# Altium integrated library Analog Devices Data Converters Digital-to-Analog Converters.IntLib: 2231 symbols (part 162 of 181)
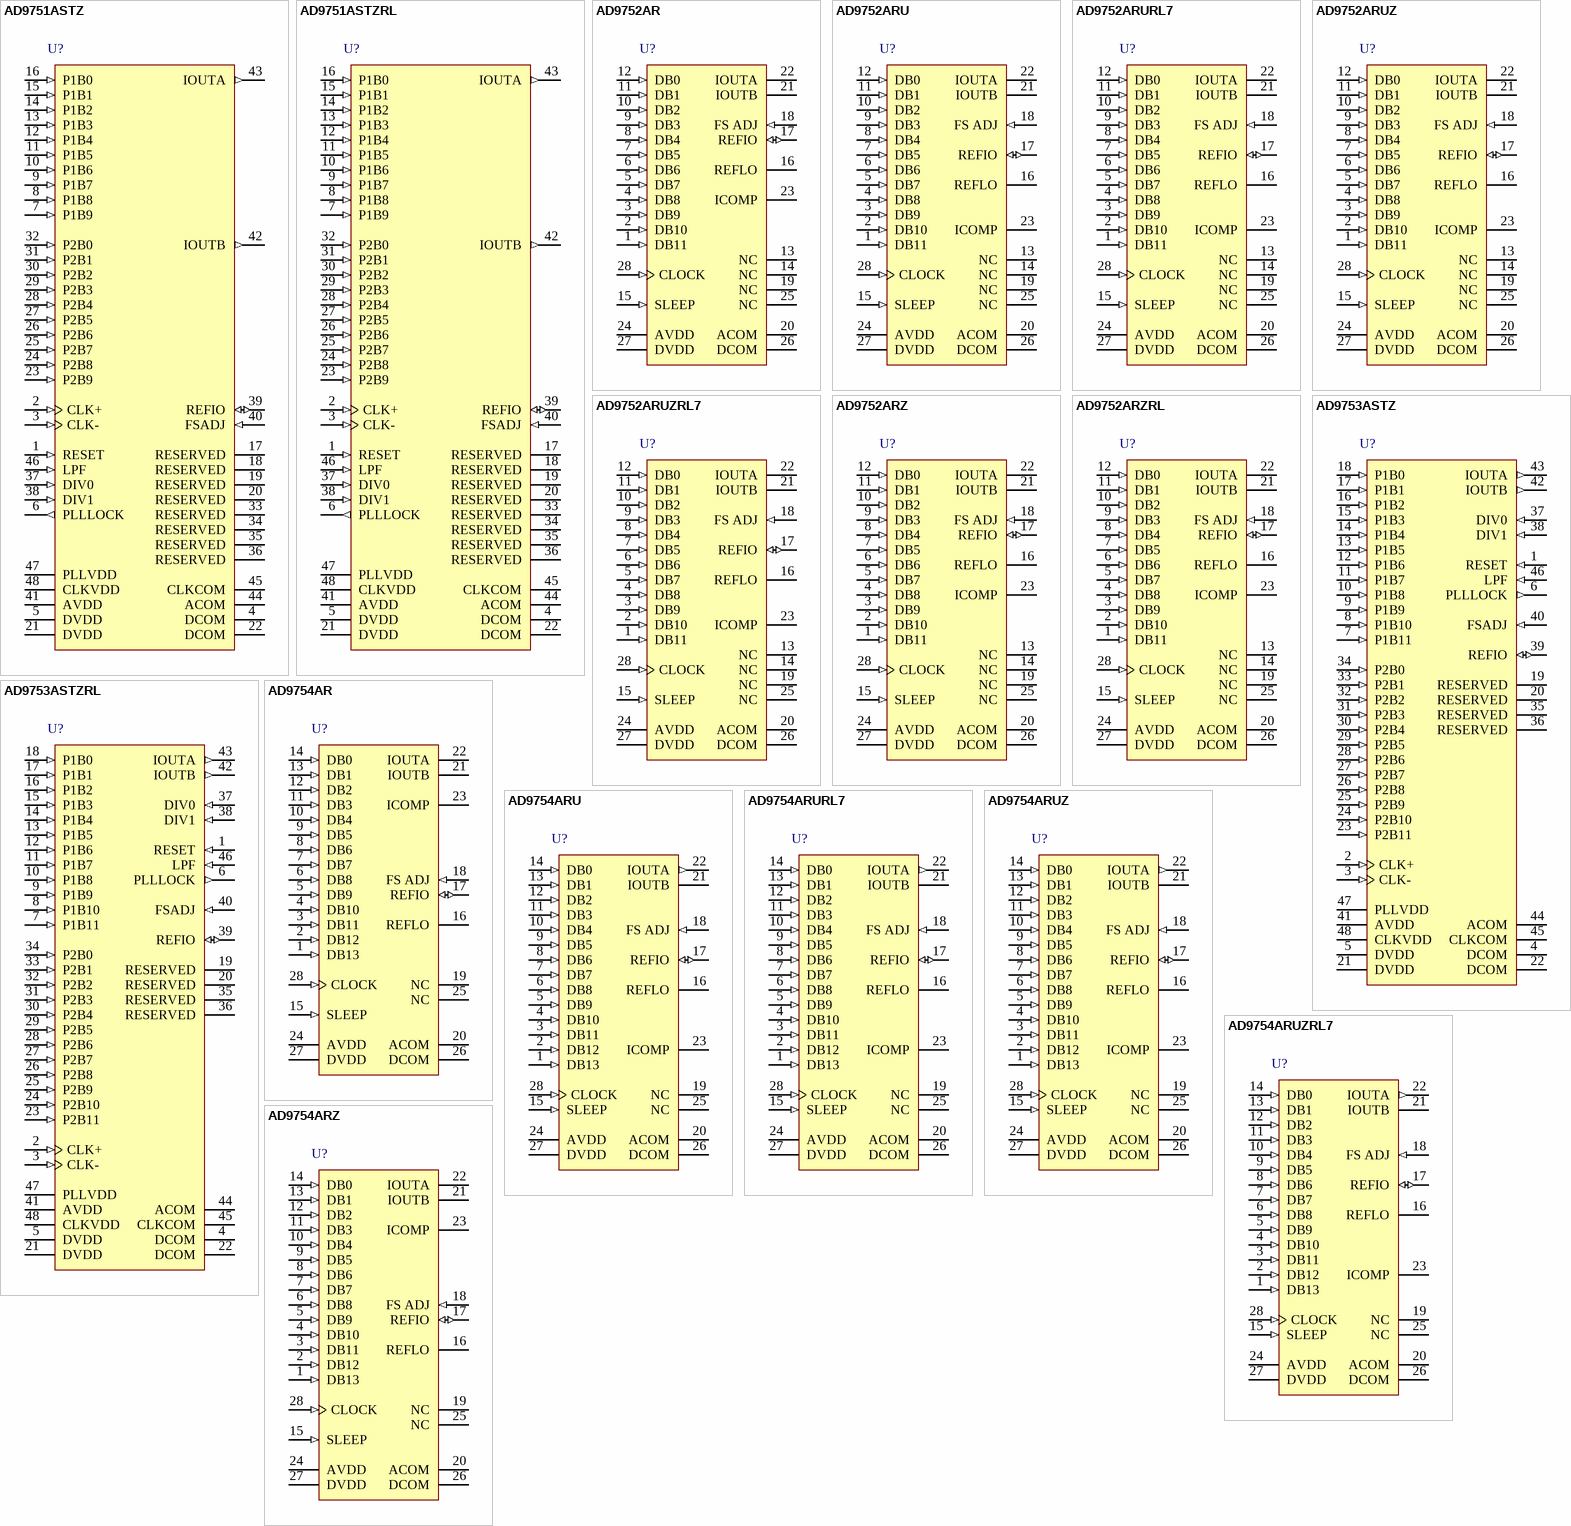
[diagram p275: symbols AD9751ASTZ to AD9754ARZ]

## AD9754AR
designator U?
Single 14-Bit TxDAC, 125 Msps, -40 to +85 degC, RW-28, Tube; Generic Part Number: AD9754; Manufacturer: Analog Devices; PartNumber: AD9754AR; # DAC Outputs: 1; Max V+: 5.5V; Op Pwr Diss: 220mW; Resolution (Bits): 14; Settling Time: 35ns; Single Supply: Yes; DatasheetVersion: Rev.A; PackageVersion: 060706-A; PackageReference: RW-28; PackageDescription: 28-Lead Standard Small Outline Package [SOIC_W]; Supplier 1: Digi-Key; Supplier Part Number 1: AD9754AR-ND; Supplier 2: Farnell; Supplier Part Number 2: 3146029; Supplier 3: Mouser; Supplier Part Number 3: 584-AD9754AR; Packing: Tube; RoHS: N; Mounting Technology: Surface Mount; Code_JEDEC: MS-013-AE; ComponentLink1Description: Manufacturer URL; ComponentLink1URL: http://www.analog.com/en/index.html; ComponentLink2Description: Datasheet; ComponentLink2URL: http://www.analog.com/static/imported-files/data_sheets/AD9754.pdf; ComponentLink3Description: Product URL; ComponentLink3URL: http://www.analog.com/en/digital-to-analog-converters/da-converters/ad9754/products/product.html
footprint RW-28_N (SOIC, 28-Leads, Body 17.9x7.5mm, Pitch 1.27mm, IPC Medium Density)
footprint RW-28_L (SOIC, 28-Leads, Body 17.9x7.5mm, Pitch 1.27mm, IPC High Density)
footprint RW-28_M (SOIC, 28-Leads, Body 17.9x7.5mm, Pitch 1.27mm, IPC Low Density)
pins: 1 DB13 (in) "Most Significant Data Bit (MSB).", 2 DB12 (in) "Data Bit 12", 3 DB11 (in) "Data Bit 11", 4 DB10 (in) "Data Bit 10", 5 DB9 (in) "Data Bit 9", 6 DB8 (in) "Data Bit 8", 7 DB7 (in) "Data Bit 7", 8 DB6 (in) "Data Bit 6", 9 DB5 (in) "Data Bit 5", 10 DB4 (in) "Data Bit 4", 11 DB3 (in) "Data Bit 3", 12 DB2 (in) "Data Bit 2", 13 DB1 (in) "Data Bit 1", 14 DB0 (in) "Least Significant Data Bit (LSB).", 15 SLEEP (in) "Power-Down Control Input. Active High. Contains active pull-down circuit; it may be left unterminated if not used.", 16 REFLO "Reference Ground when Internal 1.2 V Reference Used. Connect to AVDD to disable internal reference.", 17 REFIO (io) "Reference Input/Output. Serves as reference input when internal reference disabled (i.e., Tie REFLO to AVDD). Serves as 1.2 V reference output when internal reference activated (i.e., Tie REFLO to ACOM). Requires 0.1 uF (See Datasheet)", 18 FS ADJ (in) "Full-Scale Current Output Adjust.", 19 NC "No Connect.", 20 ACOM (power) "Analog Common.", 21 IOUTB (hiz) "Complementary DAC Current Output. Full-scale current when all data bits are 0s.", 22 IOUTA (hiz) "DAC Current Output. Full-scale current when all data bits are 1s.", 23 ICOMP "Internal Bias Node for Switch Driver Circuitry. Decouple to ACOM with 0.1 uF capacitor.", 24 AVDD (power) "Analog Supply Voltage (+4.5 V to +5.5 V).", 25 NC "No Connect.", 26 DCOM (power) "Digital Common.", 27 DVDD (power) "Digital Supply Voltage (+2.7 V to +5.5 V).", 28 CLOCK (in) "Clock Input. Data latched on positive edge of clock."

## AD9754ARU
designator U?
Single 14-Bit TxDAC, 125 Msps, -40 to +85 degC, RU-28, Tube; Generic Part Number: AD9754; Manufacturer: Analog Devices; PartNumber: AD9754ARU; # DAC Outputs: 1; Max V+: 5.5V; Op Pwr Diss: 220mW; Resolution (Bits): 14; Settling Time: 35ns; Single Supply: Yes; DatasheetVersion: Rev.A; PackageVersion: 2005; PackageReference: RU-28; PackageDescription: 28-Lead Thin Shrink Small Outline Package [TSSOP]; Supplier 1: Digi-Key; Supplier Part Number 1: AD9754ARU-ND; Supplier 2: Mouser; Supplier Part Number 2: 584-AD9754ARU; Packing: Tube; RoHS: N; Mounting Technology: Surface Mount; Code_JEDEC: MO-153-AE; ComponentLink1Description: Manufacturer URL; ComponentLink1URL: http://www.analog.com/en/index.html; ComponentLink2Description: Datasheet; ComponentLink2URL: http://www.analog.com/static/imported-files/data_sheets/AD9754.pdf; ComponentLink3Description: Package Specification; ComponentLink3URL: http://www.analog.com/static/imported-files/packages/249854663RU_28.pdf; ComponentLink4Description: Product URL; ComponentLink4URL: http://www.analog.com/en/digital-to-analog-converters/da-converters/ad9754/products/product.html
footprint RU-28_N (TSOP, 28-Leads, Body 9.7x4.4mm, Pitch 0.65mm, IPC Medium Density)
footprint RU-28_L (TSOP, 28-Leads, Body 9.7x4.4mm, Pitch 0.65mm, IPC High Density)
footprint RU-28_M (TSOP, 28-Leads, Body 9.7x4.4mm, Pitch 0.65mm, IPC Low Density)
pins: 1 DB13 (in) "Most Significant Data Bit (MSB).", 2 DB12 (in) "Data Bit 12", 3 DB11 (in) "Data Bit 11", 4 DB10 (in) "Data Bit 10", 5 DB9 (in) "Data Bit 9", 6 DB8 (in) "Data Bit 8", 7 DB7 (in) "Data Bit 7", 8 DB6 (in) "Data Bit 6", 9 DB5 (in) "Data Bit 5", 10 DB4 (in) "Data Bit 4", 11 DB3 (in) "Data Bit 3", 12 DB2 (in) "Data Bit 2", 13 DB1 (in) "Data Bit 1", 14 DB0 (in) "Least Significant Data Bit (LSB).", 15 SLEEP (in) "Power-Down Control Input. Active High. Contains active pull-down circuit; it may be left unterminated if not used.", 16 REFLO "Reference Ground when Internal 1.2 V Reference Used. Connect to AVDD to disable internal reference.", 17 REFIO (io) "Reference Input/Output. Serves as reference input when internal reference disabled (i.e., Tie REFLO to AVDD). Serves as 1.2 V reference output when internal reference activated (i.e., Tie REFLO to ACOM). Requires 0.1 uF (See Datasheet)", 18 FS ADJ (in) "Full-Scale Current Output Adjust.", 19 NC "No Connect.", 20 ACOM (power) "Analog Common.", 21 IOUTB "Complementary DAC Current Output. Full-scale current when all data bits are 0s.", 22 IOUTA (out) "DAC Current Output. Full-scale current when all data bits are 1s.", 23 ICOMP "Internal Bias Node for Switch Driver Circuitry. Decouple to ACOM with 0.1 uF capacitor.", 24 AVDD (power) "Analog Supply Voltage (+4.5 V to +5.5 V).", 25 NC "No Connect.", 26 DCOM (power) "Digital Common.", 27 DVDD (power) "Digital Supply Voltage (+2.7 V to +5.5 V).", 28 CLOCK (in) "Clock Input. Data latched on positive edge of clock."

## AD9754ARURL7
designator U?
Single 14-Bit TxDAC, 125 Msps, -40 to +85 degC, RU-28, Reel; Generic Part Number: AD9754; Manufacturer: Analog Devices; PartNumber: AD9754ARURL7; # DAC Outputs: 1; Max V+: 5.5V; Op Pwr Diss: 220mW; Resolution (Bits): 14; Settling Time: 35ns; Single Supply: Yes; DatasheetVersion: Rev.A; PackageVersion: 2005; PackageReference: RU-28; PackageDescription: 28-Lead Thin Shrink Small Outline Package [TSSOP]; Supplier 1: Digi-Key; Supplier Part Number 1: AD9754ARURL7-ND; Supplier 2: Newark; Supplier Part Number 2: 98B7479; Supplier 3: Mouser; Supplier Part Number 3: 584-AD9754ARUR7; Packing: Reel; RoHS: N; Mounting Technology: Surface Mount; Code_JEDEC: MO-153-AE; ComponentLink1Description: Manufacturer URL; ComponentLink1URL: http://www.analog.com/en/index.html; ComponentLink2Description: Datasheet; ComponentLink2URL: http://www.analog.com/static/imported-files/data_sheets/AD9754.pdf; ComponentLink3Description: Package Specification; ComponentLink3URL: http://www.analog.com/static/imported-files/packages/249854663RU_28.pdf; ComponentLink4Description: Product URL; ComponentLink4URL: http://www.analog.com/en/digital-to-analog-converters/da-converters/ad9754/products/product.html
footprint RU-28_N (TSOP, 28-Leads, Body 9.7x4.4mm, Pitch 0.65mm, IPC Medium Density)
footprint RU-28_L (TSOP, 28-Leads, Body 9.7x4.4mm, Pitch 0.65mm, IPC High Density)
footprint RU-28_M (TSOP, 28-Leads, Body 9.7x4.4mm, Pitch 0.65mm, IPC Low Density)
pins: 1 DB13 (in) "Most Significant Data Bit (MSB).", 2 DB12 (in) "Data Bit 12", 3 DB11 (in) "Data Bit 11", 4 DB10 (in) "Data Bit 10", 5 DB9 (in) "Data Bit 9", 6 DB8 (in) "Data Bit 8", 7 DB7 (in) "Data Bit 7", 8 DB6 (in) "Data Bit 6", 9 DB5 (in) "Data Bit 5", 10 DB4 (in) "Data Bit 4", 11 DB3 (in) "Data Bit 3", 12 DB2 (in) "Data Bit 2", 13 DB1 (in) "Data Bit 1", 14 DB0 (in) "Least Significant Data Bit (LSB).", 15 SLEEP (in) "Power-Down Control Input. Active High. Contains active pull-down circuit; it may be left unterminated if not used.", 16 REFLO "Reference Ground when Internal 1.2 V Reference Used. Connect to AVDD to disable internal reference.", 17 REFIO (io) "Reference Input/Output. Serves as reference input when internal reference disabled (i.e., Tie REFLO to AVDD). Serves as 1.2 V reference output when internal reference activated (i.e., Tie REFLO to ACOM). Requires 0.1 uF (See Datasheet)", 18 FS ADJ (in) "Full-Scale Current Output Adjust.", 19 NC "No Connect.", 20 ACOM (power) "Analog Common.", 21 IOUTB "Complementary DAC Current Output. Full-scale current when all data bits are 0s.", 22 IOUTA (out) "DAC Current Output. Full-scale current when all data bits are 1s.", 23 ICOMP "Internal Bias Node for Switch Driver Circuitry. Decouple to ACOM with 0.1 uF capacitor.", 24 AVDD (power) "Analog Supply Voltage (+4.5 V to +5.5 V).", 25 NC "No Connect.", 26 DCOM (power) "Digital Common.", 27 DVDD (power) "Digital Supply Voltage (+2.7 V to +5.5 V).", 28 CLOCK (in) "Clock Input. Data latched on positive edge of clock."

## AD9754ARUZ
designator U?
Single 14-Bit TxDAC, 125 Msps, -40 to +85 degC, RU-28, Pb-Free, Tube; Generic Part Number: AD9754; Manufacturer: Analog Devices; PartNumber: AD9754ARUZ; # DAC Outputs: 1; Max V+: 5.5V; Op Pwr Diss: 220mW; Resolution (Bits): 14; Settling Time: 35ns; Single Supply: Yes; DatasheetVersion: Rev.A; PackageVersion: 2005; PackageReference: RU-28; PackageDescription: 28-Lead Thin Shrink Small Outline Package [TSSOP]; Supplier 1: Digi-Key; Supplier Part Number 1: AD9754ARUZ-ND; Supplier 2: Farnell; Supplier Part Number 2: 1699616; Supplier 3: Newark; Supplier Part Number 3: 59K7365; Supplier 4: Mouser; Supplier Part Number 4: 584-AD9754ARUZ; Packing: Tube; RoHS: Y; Mounting Technology: Surface Mount; Code_JEDEC: MO-153-AE; ComponentLink1Description: Manufacturer URL; ComponentLink1URL: http://www.analog.com/en/index.html; ComponentLink2Description: Datasheet; ComponentLink2URL: http://www.analog.com/static/imported-files/data_sheets/AD9754.pdf; ComponentLink3Description: Package Specification; ComponentLink3URL: http://www.analog.com/static/imported-files/packages/249854663RU_28.pdf; ComponentLink4Description: Product URL; ComponentLink4URL: http://www.analog.com/en/digital-to-analog-converters/da-converters/ad9754/products/product.html
footprint RU-28_N (TSOP, 28-Leads, Body 9.7x4.4mm, Pitch 0.65mm, IPC Medium Density)
footprint RU-28_L (TSOP, 28-Leads, Body 9.7x4.4mm, Pitch 0.65mm, IPC High Density)
footprint RU-28_M (TSOP, 28-Leads, Body 9.7x4.4mm, Pitch 0.65mm, IPC Low Density)
pins: 1 DB13 (in) "Most Significant Data Bit (MSB).", 2 DB12 (in) "Data Bit 12", 3 DB11 (in) "Data Bit 11", 4 DB10 (in) "Data Bit 10", 5 DB9 (in) "Data Bit 9", 6 DB8 (in) "Data Bit 8", 7 DB7 (in) "Data Bit 7", 8 DB6 (in) "Data Bit 6", 9 DB5 (in) "Data Bit 5", 10 DB4 (in) "Data Bit 4", 11 DB3 (in) "Data Bit 3", 12 DB2 (in) "Data Bit 2", 13 DB1 (in) "Data Bit 1", 14 DB0 (in) "Least Significant Data Bit (LSB).", 15 SLEEP (in) "Power-Down Control Input. Active High. Contains active pull-down circuit; it may be left unterminated if not used.", 16 REFLO "Reference Ground when Internal 1.2 V Reference Used. Connect to AVDD to disable internal reference.", 17 REFIO (io) "Reference Input/Output. Serves as reference input when internal reference disabled (i.e., Tie REFLO to AVDD). Serves as 1.2 V reference output when internal reference activated (i.e., Tie REFLO to ACOM). Requires 0.1 uF (See Datasheet)", 18 FS ADJ (in) "Full-Scale Current Output Adjust.", 19 NC "No Connect.", 20 ACOM (power) "Analog Common.", 21 IOUTB "Complementary DAC Current Output. Full-scale current when all data bits are 0s.", 22 IOUTA (out) "DAC Current Output. Full-scale current when all data bits are 1s.", 23 ICOMP "Internal Bias Node for Switch Driver Circuitry. Decouple to ACOM with 0.1 uF capacitor.", 24 AVDD (power) "Analog Supply Voltage (+4.5 V to +5.5 V).", 25 NC "No Connect.", 26 DCOM (power) "Digital Common.", 27 DVDD (power) "Digital Supply Voltage (+2.7 V to +5.5 V).", 28 CLOCK (in) "Clock Input. Data latched on positive edge of clock."

## AD9754ARUZRL7
designator U?
Single 14-Bit TxDAC, 125 Msps, -40 to +85 degC, RU-28, Pb-Free, Reel; Generic Part Number: AD9754; Manufacturer: Analog Devices; PartNumber: AD9754ARUZRL7; # DAC Outputs: 1; Max V+: 5.5V; Op Pwr Diss: 220mW; Resolution (Bits): 14; Settling Time: 35ns; Single Supply: Yes; DatasheetVersion: Rev.A; PackageVersion: 2005; PackageReference: RU-28; PackageDescription: 28-Lead Thin Shrink Small Outline Package [TSSOP]; Supplier 1: Digi-Key; Supplier Part Number 1: AD9754ARUZRL7TR-ND; Supplier 2: Digi-Key; Supplier Part Number 2: AD9754ARUZRL7CT-ND; Supplier 3: Digi-Key; Supplier Part Number 3: AD9754ARUZRL7DKR-ND; Supplier 4: Newark; Supplier Part Number 4: 59K7366; Supplier 5: Mouser; Supplier Part Number 5: 584-AD9754ARUZR7; Packing: Reel; RoHS: Y; Mounting Technology: Surface Mount; Code_JEDEC: MO-153-AE; ComponentLink1Description: Manufacturer URL; ComponentLink1URL: http://www.analog.com/en/index.html; ComponentLink2Description: Datasheet; ComponentLink2URL: http://www.analog.com/static/imported-files/data_sheets/AD9754.pdf; ComponentLink3Description: Package Specification; ComponentLink3URL: http://www.analog.com/static/imported-files/packages/249854663RU_28.pdf; ComponentLink4Description: Product URL; ComponentLink4URL: http://www.analog.com/en/digital-to-analog-converters/da-converters/ad9754/products/product.html
footprint RU-28_N (TSOP, 28-Leads, Body 9.7x4.4mm, Pitch 0.65mm, IPC Medium Density)
footprint RU-28_L (TSOP, 28-Leads, Body 9.7x4.4mm, Pitch 0.65mm, IPC High Density)
footprint RU-28_M (TSOP, 28-Leads, Body 9.7x4.4mm, Pitch 0.65mm, IPC Low Density)
pins: 1 DB13 (in) "Most Significant Data Bit (MSB).", 2 DB12 (in) "Data Bit 12", 3 DB11 (in) "Data Bit 11", 4 DB10 (in) "Data Bit 10", 5 DB9 (in) "Data Bit 9", 6 DB8 (in) "Data Bit 8", 7 DB7 (in) "Data Bit 7", 8 DB6 (in) "Data Bit 6", 9 DB5 (in) "Data Bit 5", 10 DB4 (in) "Data Bit 4", 11 DB3 (in) "Data Bit 3", 12 DB2 (in) "Data Bit 2", 13 DB1 (in) "Data Bit 1", 14 DB0 (in) "Least Significant Data Bit (LSB).", 15 SLEEP (in) "Power-Down Control Input. Active High. Contains active pull-down circuit; it may be left unterminated if not used.", 16 REFLO "Reference Ground when Internal 1.2 V Reference Used. Connect to AVDD to disable internal reference.", 17 REFIO (io) "Reference Input/Output. Serves as reference input when internal reference disabled (i.e., Tie REFLO to AVDD). Serves as 1.2 V reference output when internal reference activated (i.e., Tie REFLO to ACOM). Requires 0.1 uF (See Datasheet)", 18 FS ADJ (in) "Full-Scale Current Output Adjust.", 19 NC "No Connect.", 20 ACOM (power) "Analog Common.", 21 IOUTB "Complementary DAC Current Output. Full-scale current when all data bits are 0s.", 22 IOUTA (out) "DAC Current Output. Full-scale current when all data bits are 1s.", 23 ICOMP "Internal Bias Node for Switch Driver Circuitry. Decouple to ACOM with 0.1 uF capacitor.", 24 AVDD (power) "Analog Supply Voltage (+4.5 V to +5.5 V).", 25 NC "No Connect.", 26 DCOM (power) "Digital Common.", 27 DVDD (power) "Digital Supply Voltage (+2.7 V to +5.5 V).", 28 CLOCK (in) "Clock Input. Data latched on positive edge of clock."

## AD9754ARZ
designator U?
Single 14-Bit TxDAC, 125 Msps, -40 to +85 degC, RW-28, Pb-Free, Tube; Generic Part Number: AD9754; Manufacturer: Analog Devices; PartNumber: AD9754ARZ; # DAC Outputs: 1; Max V+: 5.5V; Op Pwr Diss: 220mW; Resolution (Bits): 14; Settling Time: 35ns; Single Supply: Yes; DatasheetVersion: Rev.A; PackageVersion: 060706-A; PackageReference: RW-28; PackageDescription: 28-Lead Standard Small Outline Package [SOIC_W]; Supplier 1: Digi-Key; Supplier Part Number 1: AD9754ARZ-ND; Supplier 2: Farnell; Supplier Part Number 2: 1581896; Supplier 3: Newark; Supplier Part Number 3: 15P1060; Supplier 4: Newark; Supplier Part Number 4: 59K7367; Supplier 5: Mouser; Supplier Part Number 5: 584-AD9754ARZ; Packing: Tube; RoHS: Y; Mounting Technology: Surface Mount; Code_JEDEC: MS-013-AE; ComponentLink1Description: Manufacturer URL; ComponentLink1URL: http://www.analog.com/en/index.html; ComponentLink2Description: Datasheet; ComponentLink2URL: http://www.analog.com/static/imported-files/data_sheets/AD9754.pdf; ComponentLink3Description: Product URL; ComponentLink3URL: http://www.analog.com/en/digital-to-analog-converters/da-converters/ad9754/products/product.html
footprint RW-28_N (SOIC, 28-Leads, Body 17.9x7.5mm, Pitch 1.27mm, IPC Medium Density)
footprint RW-28_L (SOIC, 28-Leads, Body 17.9x7.5mm, Pitch 1.27mm, IPC High Density)
footprint RW-28_M (SOIC, 28-Leads, Body 17.9x7.5mm, Pitch 1.27mm, IPC Low Density)
pins: 1 DB13 (in) "Most Significant Data Bit (MSB).", 2 DB12 (in) "Data Bit 12", 3 DB11 (in) "Data Bit 11", 4 DB10 (in) "Data Bit 10", 5 DB9 (in) "Data Bit 9", 6 DB8 (in) "Data Bit 8", 7 DB7 (in) "Data Bit 7", 8 DB6 (in) "Data Bit 6", 9 DB5 (in) "Data Bit 5", 10 DB4 (in) "Data Bit 4", 11 DB3 (in) "Data Bit 3", 12 DB2 (in) "Data Bit 2", 13 DB1 (in) "Data Bit 1", 14 DB0 (in) "Least Significant Data Bit (LSB).", 15 SLEEP (in) "Power-Down Control Input. Active High. Contains active pull-down circuit; it may be left unterminated if not used.", 16 REFLO "Reference Ground when Internal 1.2 V Reference Used. Connect to AVDD to disable internal reference.", 17 REFIO (io) "Reference Input/Output. Serves as reference input when internal reference disabled (i.e., Tie REFLO to AVDD). Serves as 1.2 V reference output when internal reference activated (i.e., Tie REFLO to ACOM). Requires 0.1 uF (See Datasheet)", 18 FS ADJ (in) "Full-Scale Current Output Adjust.", 19 NC "No Connect.", 20 ACOM (power) "Analog Common.", 21 IOUTB (hiz) "Complementary DAC Current Output. Full-scale current when all data bits are 0s.", 22 IOUTA (hiz) "DAC Current Output. Full-scale current when all data bits are 1s.", 23 ICOMP "Internal Bias Node for Switch Driver Circuitry. Decouple to ACOM with 0.1 uF capacitor.", 24 AVDD (power) "Analog Supply Voltage (+4.5 V to +5.5 V).", 25 NC "No Connect.", 26 DCOM (power) "Digital Common.", 27 DVDD (power) "Digital Supply Voltage (+2.7 V to +5.5 V).", 28 CLOCK (in) "Clock Input. Data latched on positive edge of clock."

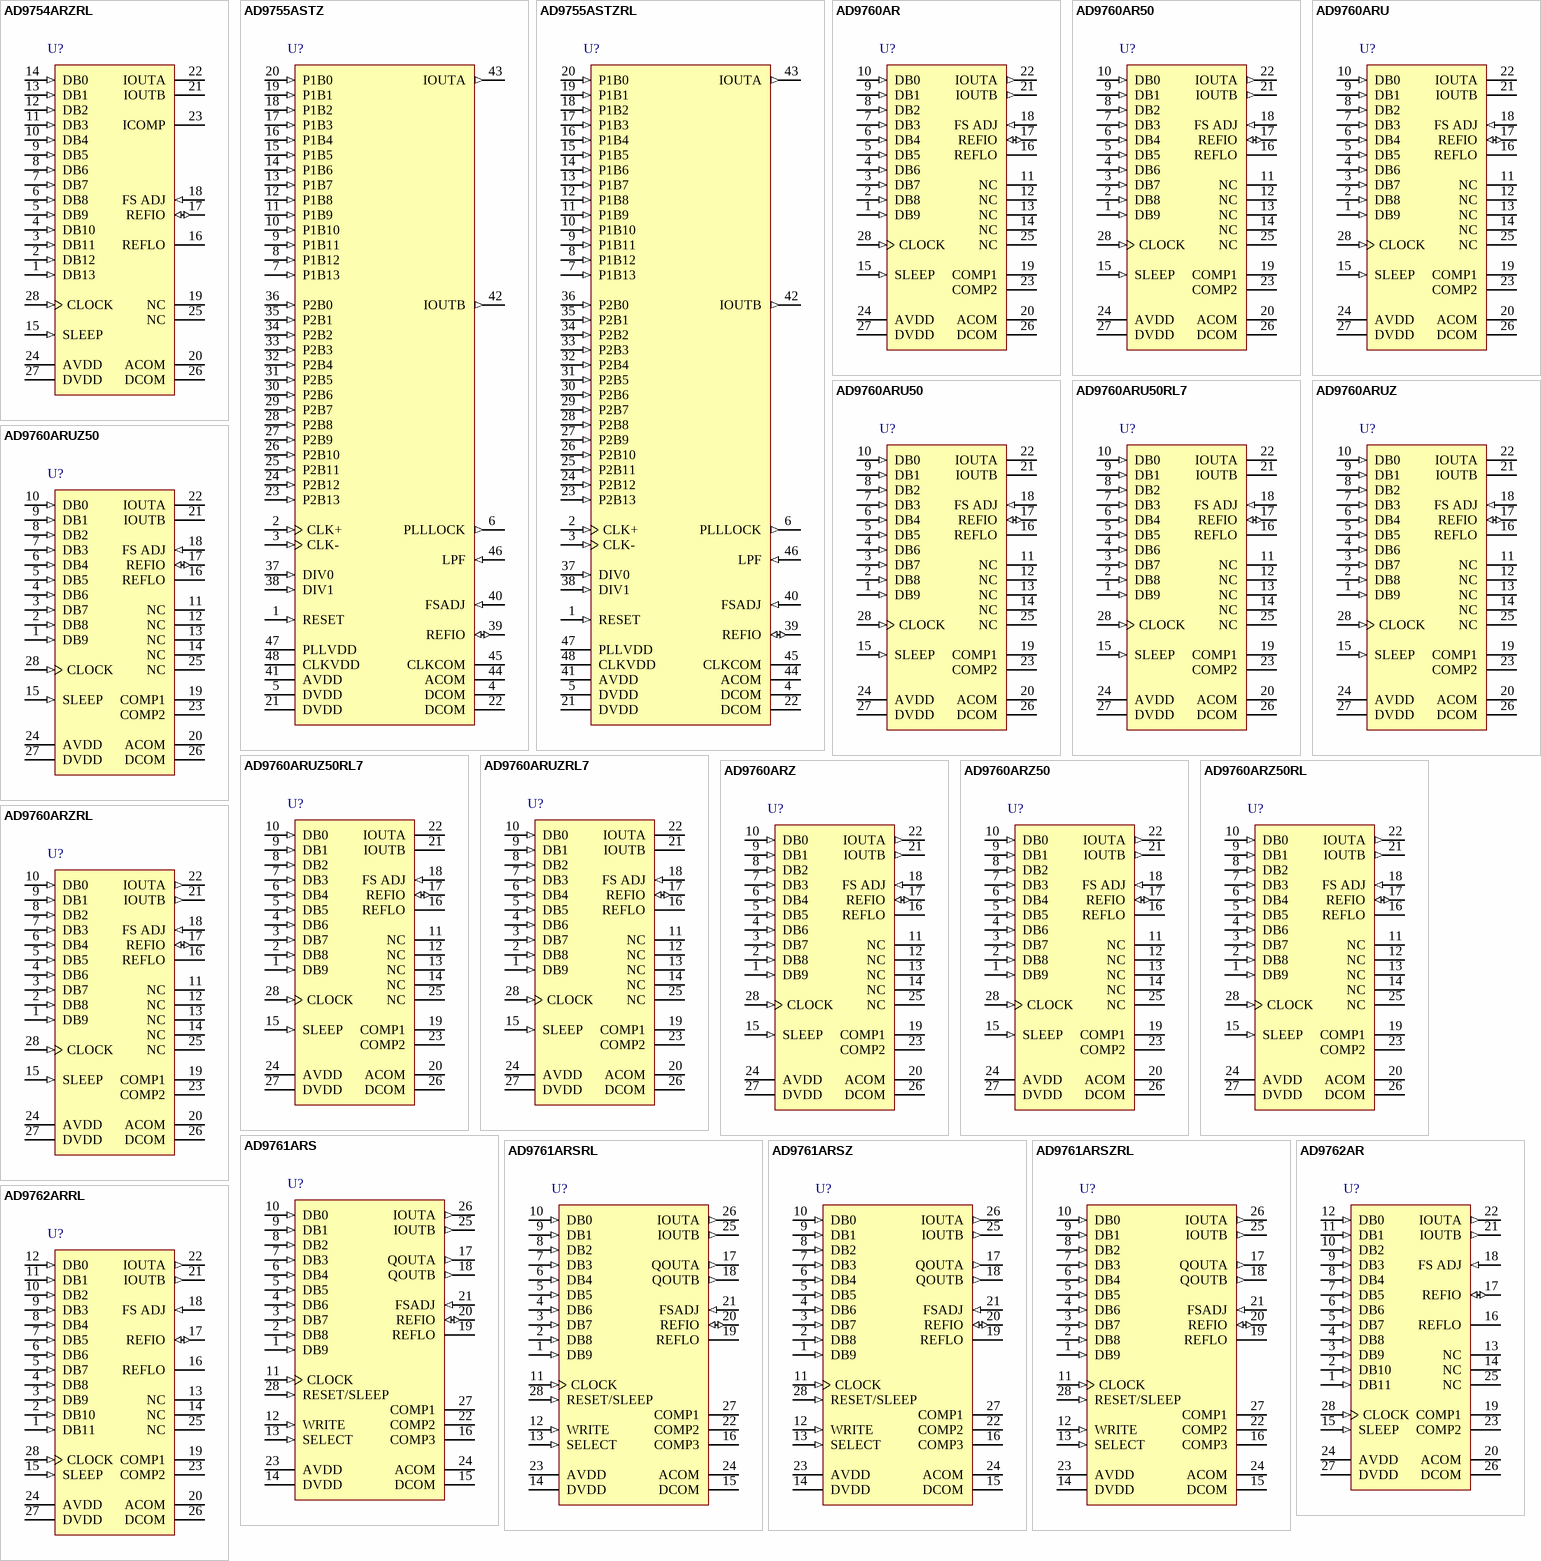
[diagram p98: symbols AD9754ARZRL to AD9762ARRL]

## AD9754ARZRL
designator U?
Single 14-Bit TxDAC, 125 Msps, -40 to +85 degC, RW-28, Pb-Free, Reel; Generic Part Number: AD9754; Manufacturer: Analog Devices; PartNumber: AD9754ARZRL; # DAC Outputs: 1; Max V+: 5.5V; Op Pwr Diss: 220mW; Resolution (Bits): 14; Settling Time: 35ns; Single Supply: Yes; DatasheetVersion: Rev.A; PackageVersion: 060706-A; PackageReference: RW-28; PackageDescription: 28-Lead Standard Small Outline Package [SOIC_W]; Supplier 1: Digi-Key; Supplier Part Number 1: AD9754ARZRL-ND; Supplier 2: Mouser; Supplier Part Number 2: 584-AD9754ARZR; Packing: Reel; RoHS: Y; Mounting Technology: Surface Mount; Code_JEDEC: MS-013-AE; ComponentLink1Description: Manufacturer URL; ComponentLink1URL: http://www.analog.com/en/index.html; ComponentLink2Description: Datasheet; ComponentLink2URL: http://www.analog.com/static/imported-files/data_sheets/AD9754.pdf; ComponentLink3Description: Product URL; ComponentLink3URL: http://www.analog.com/en/digital-to-analog-converters/da-converters/ad9754/products/product.html
footprint RW-28_N (SOIC, 28-Leads, Body 17.9x7.5mm, Pitch 1.27mm, IPC Medium Density)
footprint RW-28_L (SOIC, 28-Leads, Body 17.9x7.5mm, Pitch 1.27mm, IPC High Density)
footprint RW-28_M (SOIC, 28-Leads, Body 17.9x7.5mm, Pitch 1.27mm, IPC Low Density)
pins: 1 DB13 (in) "Most Significant Data Bit (MSB).", 2 DB12 (in) "Data Bit 12", 3 DB11 (in) "Data Bit 11", 4 DB10 (in) "Data Bit 10", 5 DB9 (in) "Data Bit 9", 6 DB8 (in) "Data Bit 8", 7 DB7 (in) "Data Bit 7", 8 DB6 (in) "Data Bit 6", 9 DB5 (in) "Data Bit 5", 10 DB4 (in) "Data Bit 4", 11 DB3 (in) "Data Bit 3", 12 DB2 (in) "Data Bit 2", 13 DB1 (in) "Data Bit 1", 14 DB0 (in) "Least Significant Data Bit (LSB).", 15 SLEEP (in) "Power-Down Control Input. Active High. Contains active pull-down circuit; it may be left unterminated if not used.", 16 REFLO "Reference Ground when Internal 1.2 V Reference Used. Connect to AVDD to disable internal reference.", 17 REFIO (io) "Reference Input/Output. Serves as reference input when internal reference disabled (i.e., Tie REFLO to AVDD). Serves as 1.2 V reference output when internal reference activated (i.e., Tie REFLO to ACOM). Requires 0.1 uF (See Datasheet)", 18 FS ADJ (in) "Full-Scale Current Output Adjust.", 19 NC "No Connect.", 20 ACOM (power) "Analog Common.", 21 IOUTB (hiz) "Complementary DAC Current Output. Full-scale current when all data bits are 0s.", 22 IOUTA (hiz) "DAC Current Output. Full-scale current when all data bits are 1s.", 23 ICOMP "Internal Bias Node for Switch Driver Circuitry. Decouple to ACOM with 0.1 uF capacitor.", 24 AVDD (power) "Analog Supply Voltage (+4.5 V to +5.5 V).", 25 NC "No Connect.", 26 DCOM (power) "Digital Common.", 27 DVDD (power) "Digital Supply Voltage (+2.7 V to +5.5 V).", 28 CLOCK (in) "Clock Input. Data latched on positive edge of clock."

## AD9755ASTZ
designator U?
Single 14-Bit TxDAC+, 300 Msps, -40 to +85 degC, ST-48, Pb-Free, Tray; Generic Part Number: AD9755; Manufacturer: Analog Devices; PartNumber: AD9755ASTZ; # DAC Outputs: 1; Max V+: 3.6V; Op Pwr Diss: 165mW; Resolution (Bits): 14; Settling Time: 11ns; Single Supply: Yes; DatasheetVersion: Rev.B; PackageVersion: revA; PackageReference: ST-48; PackageDescription: 48-Pin Thin Quad Flat Pack 0.5 mm Pitch; Supplier 1: Digi-Key; Supplier Part Number 1: AD9755ASTZ-ND; Supplier 2: Farnell; Supplier Part Number 2: 1424230; Supplier 3: Newark; Supplier Part Number 3: 59K7369; Supplier 4: Mouser; Supplier Part Number 4: 584-AD9755ASTZ; Packing: Tray; RoHS: Y; Mounting Technology: Surface Mount; ComponentLink1Description: Manufacturer URL; ComponentLink1URL: http://www.analog.com/en/index.html; ComponentLink2Description: Datasheet; ComponentLink2URL: http://www.analog.com/static/imported-files/data_sheets/AD9755.pdf; ComponentLink3Description: Package Specification; ComponentLink3URL: http://www.analog.com/static/imported-files/packages/PKG_PDF/LQFP%28ST%29/ST_48.pdf; ComponentLink4Description: Product URL; ComponentLink4URL: http://www.analog.com/en/digital-to-analog-converters/da-converters/ad9755/products/product.html
footprint ST-48_N (Thin QFP, 48-Leads, Body 7x7mm, Pitch 0.5mm, IPC Medium Density)
footprint ST-48_L (Thin QFP, 48-Leads, Body 7x7mm, Pitch 0.5mm, IPC High Density)
footprint ST-48_M (Thin QFP, 48-Leads, Body 7x7mm, Pitch 0.5mm, IPC Low Density)
pins: 1 RESET (in) "Internal Clock Divider Reset", 2 CLK+ (in) "Differential Clock Input", 3 CLK- (in) "Differential Clock Input", 4 DCOM (power) "Digital Common", 5 DVDD (power) "Digital Supply Voltage", 6 PLLLOCK (out) "Phase-Locked Loop Lock Indicator Output", 7 P1B13 (in) "Data Bit P1B13, Port 1", 8 P1B12 (in) "Data Bit P1B12, Port 1", 9 P1B11 (in) "Data Bit P1B11, Port 1", 10 P1B10 (in) "Data Bit P1B10, Port 1", 11 P1B9 (in) "Data Bit P1B9, Port 1", 12 P1B8 (in) "Data Bit P1B8, Port 1", 13 P1B7 (in) "Data Bit P1B7, Port 1", 14 P1B6 (in) "Data Bit P1B6, Port 1", 15 P1B5 (in) "Data Bit P1B5, Port 1", 16 P1B4 (in) "Data Bit P1B4, Port 1", 17 P1B3 (in) "Data Bit P1B3, Port 1", 18 P1B2 (in) "Data Bit P1B2, Port 1", 19 P1B1 (in) "Data Bit P1B1, Port 1", 20 P1B0 (in) "Data Bit P1B0, Port 1", 21 DVDD (power) "Digital Supply Voltage", 22 DCOM (power) "Digital Common", 23 P2B13 (in) "Data Bit P2B13, Port 2", 24 P2B12 (in) "Data Bit P2B12, Port 2", 25 P2B11 (in) "Data Bit P2B11, Port 2", 26 P2B10 (in) "Data Bit P2B10, Port 2", 27 P2B9 (in) "Data Bit P2B9, Port 2", 28 P2B8 (in) "Data Bit P2B8, Port 2", 29 P2B7 (in) "Data Bit P2B7, Port 2", 30 P2B6 (in) "Data Bit P2B6, Port 2", 31 P2B5 (in) "Data Bit P2B5, Port 2", 32 P2B4 (in) "Data Bit P2B4, Port 2", 33 P2B3 (in) "Data Bit P2B3, Port 2", 34 P2B2 (in) "Data Bit P2B2, Port 2", 35 P2B1 (in) "Data Bit P2B1, Port 2", 36 P2B0 (in) "Data Bit P2B0, Port 2", 37 DIV0 (in) "Control Inputs for PLL and Input Port Selector Mode; see Tables I and II for details.", 38 DIV1 (in) "Control Inputs for PLL and Input Port Selector Mode; see Tables I and II for details.", 39 REFIO (io) "Reference Input/Output", 40 FSADJ (in) "Full-Scale Current Output Adjust", 41 AVDD (power) "Analog Supply Voltage", 42 IOUTB (out) "Differential DAC Current Output", 43 IOUTA (out) "Differential DAC Current Output", 44 ACOM (power) "Analog Common", 45 CLKCOM (power) "Clock and Phase-Locked Loop Common", 46 LPF (in) "Phase-Locked Loop Filter", 47 PLLVDD (power) "Phase-Locked Loop Supply Voltage", 48 CLKVDD (power) "Clock Supply Voltage"

## AD9755ASTZRL
designator U?
Single 14-Bit TxDAC+, 300 Msps, -40 to +85 degC, ST-48, Pb-Free, Reel; Generic Part Number: AD9755; Manufacturer: Analog Devices; PartNumber: AD9755ASTZRL; # DAC Outputs: 1; Max V+: 3.6V; Op Pwr Diss: 165mW; Resolution (Bits): 14; Settling Time: 11ns; Single Supply: Yes; DatasheetVersion: Rev.B; PackageVersion: revA; PackageReference: ST-48; PackageDescription: 48-Pin Thin Quad Flat Pack 0.5 mm Pitch; Supplier 1: Digi-Key; Supplier Part Number 1: AD9755ASTZRL-ND; Supplier 2: Newark; Supplier Part Number 2: 59K7370; Supplier 3: Mouser; Supplier Part Number 3: 584-AD9755ASTZR; Packing: Reel; RoHS: Y; Mounting Technology: Surface Mount; ComponentLink1Description: Manufacturer URL; ComponentLink1URL: http://www.analog.com/en/index.html; ComponentLink2Description: Datasheet; ComponentLink2URL: http://www.analog.com/static/imported-files/data_sheets/AD9755.pdf; ComponentLink3Description: Package Specification; ComponentLink3URL: http://www.analog.com/static/imported-files/packages/PKG_PDF/LQFP%28ST%29/ST_48.pdf; ComponentLink4Description: Product URL; ComponentLink4URL: http://www.analog.com/en/digital-to-analog-converters/da-converters/ad9755/products/product.html
footprint ST-48_N (Thin QFP, 48-Leads, Body 7x7mm, Pitch 0.5mm, IPC Medium Density)
footprint ST-48_L (Thin QFP, 48-Leads, Body 7x7mm, Pitch 0.5mm, IPC High Density)
footprint ST-48_M (Thin QFP, 48-Leads, Body 7x7mm, Pitch 0.5mm, IPC Low Density)
pins: 1 RESET (in) "Internal Clock Divider Reset", 2 CLK+ (in) "Differential Clock Input", 3 CLK- (in) "Differential Clock Input", 4 DCOM (power) "Digital Common", 5 DVDD (power) "Digital Supply Voltage", 6 PLLLOCK (out) "Phase-Locked Loop Lock Indicator Output", 7 P1B13 (in) "Data Bit P1B13, Port 1", 8 P1B12 (in) "Data Bit P1B12, Port 1", 9 P1B11 (in) "Data Bit P1B11, Port 1", 10 P1B10 (in) "Data Bit P1B10, Port 1", 11 P1B9 (in) "Data Bit P1B9, Port 1", 12 P1B8 (in) "Data Bit P1B8, Port 1", 13 P1B7 (in) "Data Bit P1B7, Port 1", 14 P1B6 (in) "Data Bit P1B6, Port 1", 15 P1B5 (in) "Data Bit P1B5, Port 1", 16 P1B4 (in) "Data Bit P1B4, Port 1", 17 P1B3 (in) "Data Bit P1B3, Port 1", 18 P1B2 (in) "Data Bit P1B2, Port 1", 19 P1B1 (in) "Data Bit P1B1, Port 1", 20 P1B0 (in) "Data Bit P1B0, Port 1", 21 DVDD (power) "Digital Supply Voltage", 22 DCOM (power) "Digital Common", 23 P2B13 (in) "Data Bit P2B13, Port 2", 24 P2B12 (in) "Data Bit P2B12, Port 2", 25 P2B11 (in) "Data Bit P2B11, Port 2", 26 P2B10 (in) "Data Bit P2B10, Port 2", 27 P2B9 (in) "Data Bit P2B9, Port 2", 28 P2B8 (in) "Data Bit P2B8, Port 2", 29 P2B7 (in) "Data Bit P2B7, Port 2", 30 P2B6 (in) "Data Bit P2B6, Port 2", 31 P2B5 (in) "Data Bit P2B5, Port 2", 32 P2B4 (in) "Data Bit P2B4, Port 2", 33 P2B3 (in) "Data Bit P2B3, Port 2", 34 P2B2 (in) "Data Bit P2B2, Port 2", 35 P2B1 (in) "Data Bit P2B1, Port 2", 36 P2B0 (in) "Data Bit P2B0, Port 2", 37 DIV0 (in) "Control Inputs for PLL and Input Port Selector Mode; see Tables I and II for details.", 38 DIV1 (in) "Control Inputs for PLL and Input Port Selector Mode; see Tables I and II for details.", 39 REFIO (io) "Reference Input/Output", 40 FSADJ (in) "Full-Scale Current Output Adjust", 41 AVDD (power) "Analog Supply Voltage", 42 IOUTB (out) "Differential DAC Current Output", 43 IOUTA (out) "Differential DAC Current Output", 44 ACOM (power) "Analog Common", 45 CLKCOM (power) "Clock and Phase-Locked Loop Common", 46 LPF (in) "Phase-Locked Loop Filter", 47 PLLVDD (power) "Phase-Locked Loop Supply Voltage", 48 CLKVDD (power) "Clock Supply Voltage"

## AD9760AR
designator U?
Single 10-Bit TxDAC, 125 Msps, -40 to +85 degC, RW-28, Tube; Generic Part Number: AD9760; Manufacturer: Analog Devices; PartNumber: AD9760AR; # DAC Outputs: 1; Max V+: 5.5V; Op Pwr Diss: 175mW; Resolution (Bits): 10; Settling Time: 35ns; Single Supply: Yes; DatasheetVersion: Rev.B; PackageVersion: 060706-A; PackageReference: RW-28; PackageDescription: 28-Lead Standard Small Outline Package [SOIC_W]; Supplier 1: Digi-Key; Supplier Part Number 1: AD9760AR-ND; Supplier 2: Newark; Supplier Part Number 2: 09B6873; Supplier 3: Mouser; Supplier Part Number 3: 584-AD9760AR; Packing: Tube; RoHS: N; Mounting Technology: Surface Mount; Code_JEDEC: MS-013-AE; ComponentLink1Description: Manufacturer URL; ComponentLink1URL: http://www.analog.com/en/index.html; ComponentLink2Description: Datasheet; ComponentLink2URL: http://www.analog.com/static/imported-files/data_sheets/AD9760.pdf; ComponentLink3Description: Product URL; ComponentLink3URL: http://www.analog.com/en/digital-to-analog-converters/da-converters/ad9760/products/product.html
footprint RW-28_N (SOIC, 28-Leads, Body 17.9x7.5mm, Pitch 1.27mm, IPC Medium Density)
footprint RW-28_L (SOIC, 28-Leads, Body 17.9x7.5mm, Pitch 1.27mm, IPC High Density)
footprint RW-28_M (SOIC, 28-Leads, Body 17.9x7.5mm, Pitch 1.27mm, IPC Low Density)
pins: 1 DB9 (in) "Most Significant Data Bit (MSB).", 2 DB8 (in) "Data Bit.", 3 DB7 (in) "Data Bit.", 4 DB6 (in) "Data Bit.", 5 DB5 (in) "Data Bit.", 6 DB4 (in) "Data Bit.", 7 DB3 (in) "Data Bit.", 8 DB2 (in) "Data Bit.", 9 DB1 (in) "Data Bit.", 10 DB0 (in) "Least Significant Data Bit (LSB).", 11 NC "No Internal Connection.", 12 NC "No Internal Connection.", 13 NC "No Internal Connection.", 14 NC "No Internal Connection.", 15 SLEEP (in) "Power-Down Control Input. Active High. Contains active pull-down circuit, thus may be left unterminated if not used.", 16 REFLO "Reference Ground when Internal 1.2 V Reference Used. Connect to AVDD to disable internal reference.", 17 REFIO (io) "Reference Input/Output. Serves as reference input when internal reference disabled (i.e., Tie REFLO to AVDD). Serves as 1.2 V reference output when internal reference activated (i.e., Tie REFLO to ACOM). Requires 0.1 µF (See Datasheet)", 18 FS ADJ (in) "Full-Scale Current Output Adjust.", 19 COMP1 "Bandwidth/Noise Reduction Node. Add 0.1 µF to AVDD for optimum performance.", 20 ACOM (power) "Analog Common.", 21 IOUTB (out) "Complementary DAC Current Output. Full-scale current when all data bits are 0s.", 22 IOUTA (out) "DAC Current Output. Full-scale current when all data bits are 1s.", 23 COMP2 "Internal Bias Node for Switch Driver Circuitry. Decouple to ACOM with 0.1 µF capacitor.", 24 AVDD (power) "Analog Supply Voltage (+2.7 V to +5.5 V).", 25 NC "No Internal Connection.", 26 DCOM (power) "Digital Common.", 27 DVDD (power) "Digital Supply Voltage (+2.7 V to +5.5 V).", 28 CLOCK (in) "Clock Input.  Data latched on positive edge of clock."

## AD9760AR50
designator U?
Single 10-Bit TxDAC, 125 Msps, -40 to +85 degC, RW-28, Tube; Generic Part Number: AD9760; Manufacturer: Analog Devices; PartNumber: AD9760AR50; # DAC Outputs: 1; Max V+: 5.5V; Op Pwr Diss: 175mW; Resolution (Bits): 10; Settling Time: 35ns; Single Supply: Yes; DatasheetVersion: Rev.B; PackageVersion: 060706-A; PackageReference: RW-28; PackageDescription: 28-Lead Standard Small Outline Package [SOIC_W]; Supplier 1: Digi-Key; Supplier Part Number 1: AD9760AR50-ND; Supplier 2: Newark; Supplier Part Number 2: 09B6874; Supplier 3: Mouser; Supplier Part Number 3: 584-AD9760AR50; Packing: Tube; RoHS: N; Mounting Technology: Surface Mount; Code_JEDEC: MS-013-AE; ComponentLink1Description: Manufacturer URL; ComponentLink1URL: http://www.analog.com/en/index.html; ComponentLink2Description: Datasheet; ComponentLink2URL: http://www.analog.com/static/imported-files/data_sheets/AD9760.pdf; ComponentLink3Description: Product URL; ComponentLink3URL: http://www.analog.com/en/digital-to-analog-converters/da-converters/ad9760/products/product.html
footprint RW-28_N (SOIC, 28-Leads, Body 17.9x7.5mm, Pitch 1.27mm, IPC Medium Density)
footprint RW-28_L (SOIC, 28-Leads, Body 17.9x7.5mm, Pitch 1.27mm, IPC High Density)
footprint RW-28_M (SOIC, 28-Leads, Body 17.9x7.5mm, Pitch 1.27mm, IPC Low Density)
pins: 1 DB9 (in) "Most Significant Data Bit (MSB).", 2 DB8 (in) "Data Bit.", 3 DB7 (in) "Data Bit.", 4 DB6 (in) "Data Bit.", 5 DB5 (in) "Data Bit.", 6 DB4 (in) "Data Bit.", 7 DB3 (in) "Data Bit.", 8 DB2 (in) "Data Bit.", 9 DB1 (in) "Data Bit.", 10 DB0 (in) "Least Significant Data Bit (LSB).", 11 NC "No Internal Connection.", 12 NC "No Internal Connection.", 13 NC "No Internal Connection.", 14 NC "No Internal Connection.", 15 SLEEP (in) "Power-Down Control Input. Active High. Contains active pull-down circuit, thus may be left unterminated if not used.", 16 REFLO "Reference Ground when Internal 1.2 V Reference Used. Connect to AVDD to disable internal reference.", 17 REFIO (io) "Reference Input/Output. Serves as reference input when internal reference disabled (i.e., Tie REFLO to AVDD). Serves as 1.2 V reference output when internal reference activated (i.e., Tie REFLO to ACOM). Requires 0.1 µF (See Datasheet)", 18 FS ADJ (in) "Full-Scale Current Output Adjust.", 19 COMP1 "Bandwidth/Noise Reduction Node. Add 0.1 µF to AVDD for optimum performance.", 20 ACOM (power) "Analog Common.", 21 IOUTB (out) "Complementary DAC Current Output. Full-scale current when all data bits are 0s.", 22 IOUTA (out) "DAC Current Output. Full-scale current when all data bits are 1s.", 23 COMP2 "Internal Bias Node for Switch Driver Circuitry. Decouple to ACOM with 0.1 µF capacitor.", 24 AVDD (power) "Analog Supply Voltage (+2.7 V to +5.5 V).", 25 NC "No Internal Connection.", 26 DCOM (power) "Digital Common.", 27 DVDD (power) "Digital Supply Voltage (+2.7 V to +5.5 V).", 28 CLOCK (in) "Clock Input.  Data latched on positive edge of clock."

## AD9760ARU
designator U?
Single 10-Bit TxDAC, 125 Msps, -40 to +85 degC, RU-28, Tube; Generic Part Number: AD9760; Manufacturer: Analog Devices; PartNumber: AD9760ARU; # DAC Outputs: 1; Max V+: 5.5V; Op Pwr Diss: 175mW; Resolution (Bits): 10; Settling Time: 35ns; Single Supply: Yes; DatasheetVersion: Rev.B; PackageVersion: 2005; PackageReference: RU-28; PackageDescription: 28-Lead Thin Shrink Small Outline Package [TSSOP]; Supplier 1: Digi-Key; Supplier Part Number 1: AD9760ARU-ND; Supplier 2: Mouser; Supplier Part Number 2: 584-AD9760ARU; Packing: Tube; RoHS: N; Mounting Technology: Surface Mount; Code_JEDEC: MO-153-AE; ComponentLink1Description: Manufacturer URL; ComponentLink1URL: http://www.analog.com/en/index.html; ComponentLink2Description: Datasheet; ComponentLink2URL: http://www.analog.com/static/imported-files/data_sheets/AD9760.pdf; ComponentLink3Description: Package Specification; ComponentLink3URL: http://www.analog.com/static/imported-files/packages/249854663RU_28.pdf; ComponentLink4Description: Product URL; ComponentLink4URL: http://www.analog.com/en/digital-to-analog-converters/da-converters/ad9760/products/product.html
footprint RU-28_N (TSOP, 28-Leads, Body 9.7x4.4mm, Pitch 0.65mm, IPC Medium Density)
footprint RU-28_L (TSOP, 28-Leads, Body 9.7x4.4mm, Pitch 0.65mm, IPC High Density)
footprint RU-28_M (TSOP, 28-Leads, Body 9.7x4.4mm, Pitch 0.65mm, IPC Low Density)
pins: 1 DB9 (in) "Most Significant Data Bit (MSB).", 2 DB8 (in) "Data Bit 8", 3 DB7 (in) "Data Bit 7", 4 DB6 (in) "Data Bit 6", 5 DB5 (in) "Data Bit 5", 6 DB4 (in) "Data Bit 4", 7 DB3 (in) "Data Bit 3", 8 DB2 (in) "Data Bit 2", 9 DB1 (in) "Data Bit 1", 10 DB0 (in) "Least Significant Data Bit (LSB).", 11 NC "No Internal Connection.", 12 NC "No Internal Connection.", 13 NC "No Internal Connection.", 14 NC "No Internal Connection.", 15 SLEEP (in) "Power-Down Control Input. Active High. Contains active pull-down circuit, thus may be left unterminated if not used.", 16 REFLO "Reference Ground when Internal 1.2 V Reference Used. Connect to AVDD to disable internal reference.", 17 REFIO (io) "Reference Input/Output. Serves as reference input when internal reference disabled (i.e., Tie REFLO to AVDD). Serves as 1.2 V reference output when internal reference activated (i.e., Tie REFLO to ACOM). Requires 0.1 uF (See Datasheet)", 18 FS ADJ (in) "Full-Scale Current Output Adjust.", 19 COMP1 "Bandwidth/Noise Reduction Node. Add 0.1 uF to AVDD for optimum performance.", 20 ACOM (power) "Analog Common.", 21 IOUTB "Complementary DAC Current Output. Full-scale current when all data bits are 0s.", 22 IOUTA "DAC Current Output. Full-scale current when all data bits are 1s.", 23 COMP2 "Internal Bias Node for Switch Driver Circuitry. Decouple to ACOM with 0.1 uF capacitor.", 24 AVDD (power) "Analog Supply Voltage (+2.7 V to +5.5 V).", 25 NC "No Internal Connection.", 26 DCOM (power) "Digital Common.", 27 DVDD (power) "Digital Supply Voltage (+2.7 V to +5.5 V).", 28 CLOCK (in) "Clock Input. Data latched on positive edge of clock."

## AD9760ARU50
designator U?
Single 10-Bit TxDAC, 125 Msps, -40 to +85 degC, RU-28, Tube; Generic Part Number: AD9760; Manufacturer: Analog Devices; PartNumber: AD9760ARU50; # DAC Outputs: 1; Max V+: 5.5V; Op Pwr Diss: 175mW; Resolution (Bits): 10; Settling Time: 35ns; Single Supply: Yes; DatasheetVersion: Rev.B; PackageVersion: 2005; PackageReference: RU-28; PackageDescription: 28-Lead Thin Shrink Small Outline Package [TSSOP]; Supplier 1: Digi-Key; Supplier Part Number 1: AD9760ARU50-ND; Supplier 2: Mouser; Supplier Part Number 2: 584-AD9760ARU50; Packing: Tube; RoHS: N; Mounting Technology: Surface Mount; Code_JEDEC: MO-153-AE; ComponentLink1Description: Manufacturer URL; ComponentLink1URL: http://www.analog.com/en/index.html; ComponentLink2Description: Datasheet; ComponentLink2URL: http://www.analog.com/static/imported-files/data_sheets/AD9760.pdf; ComponentLink3Description: Package Specification; ComponentLink3URL: http://www.analog.com/static/imported-files/packages/249854663RU_28.pdf; ComponentLink4Description: Product URL; ComponentLink4URL: http://www.analog.com/en/digital-to-analog-converters/da-converters/ad9760/products/product.html
footprint RU-28_N (TSOP, 28-Leads, Body 9.7x4.4mm, Pitch 0.65mm, IPC Medium Density)
footprint RU-28_L (TSOP, 28-Leads, Body 9.7x4.4mm, Pitch 0.65mm, IPC High Density)
footprint RU-28_M (TSOP, 28-Leads, Body 9.7x4.4mm, Pitch 0.65mm, IPC Low Density)
pins: 1 DB9 (in) "Most Significant Data Bit (MSB).", 2 DB8 (in) "Data Bit 8", 3 DB7 (in) "Data Bit 7", 4 DB6 (in) "Data Bit 6", 5 DB5 (in) "Data Bit 5", 6 DB4 (in) "Data Bit 4", 7 DB3 (in) "Data Bit 3", 8 DB2 (in) "Data Bit 2", 9 DB1 (in) "Data Bit 1", 10 DB0 (in) "Least Significant Data Bit (LSB).", 11 NC "No Internal Connection.", 12 NC "No Internal Connection.", 13 NC "No Internal Connection.", 14 NC "No Internal Connection.", 15 SLEEP (in) "Power-Down Control Input. Active High. Contains active pull-down circuit, thus may be left unterminated if not used.", 16 REFLO "Reference Ground when Internal 1.2 V Reference Used. Connect to AVDD to disable internal reference.", 17 REFIO (io) "Reference Input/Output. Serves as reference input when internal reference disabled (i.e., Tie REFLO to AVDD). Serves as 1.2 V reference output when internal reference activated (i.e., Tie REFLO to ACOM). Requires 0.1 uF (See Datasheet)", 18 FS ADJ (in) "Full-Scale Current Output Adjust.", 19 COMP1 "Bandwidth/Noise Reduction Node. Add 0.1 uF to AVDD for optimum performance.", 20 ACOM (power) "Analog Common.", 21 IOUTB "Complementary DAC Current Output. Full-scale current when all data bits are 0s.", 22 IOUTA "DAC Current Output. Full-scale current when all data bits are 1s.", 23 COMP2 "Internal Bias Node for Switch Driver Circuitry. Decouple to ACOM with 0.1 uF capacitor.", 24 AVDD (power) "Analog Supply Voltage (+2.7 V to +5.5 V).", 25 NC "No Internal Connection.", 26 DCOM (power) "Digital Common.", 27 DVDD (power) "Digital Supply Voltage (+2.7 V to +5.5 V).", 28 CLOCK (in) "Clock Input. Data latched on positive edge of clock."

## AD9760ARU50RL7
designator U?
Single 10-Bit TxDAC, 125 Msps, -40 to +85 degC, RU-28, Reel; Generic Part Number: AD9760; Manufacturer: Analog Devices; PartNumber: AD9760ARU50RL7; # DAC Outputs: 1; Max V+: 5.5V; Op Pwr Diss: 175mW; Resolution (Bits): 10; Settling Time: 35ns; Single Supply: Yes; DatasheetVersion: Rev.B; PackageVersion: 2005; PackageReference: RU-28; PackageDescription: 28-Lead Thin Shrink Small Outline Package [TSSOP]; Supplier 1: Digi-Key; Supplier Part Number 1: AD9760ARU50RL7-ND; Supplier 2: Mouser; Supplier Part Number 2: 584-AD9760ARU50R7; Packing: Reel; RoHS: N; Mounting Technology: Surface Mount; Code_JEDEC: MO-153-AE; ComponentLink1Description: Manufacturer URL; ComponentLink1URL: http://www.analog.com/en/index.html; ComponentLink2Description: Datasheet; ComponentLink2URL: http://www.analog.com/static/imported-files/data_sheets/AD9760.pdf; ComponentLink3Description: Package Specification; ComponentLink3URL: http://www.analog.com/static/imported-files/packages/249854663RU_28.pdf; ComponentLink4Description: Product URL; ComponentLink4URL: http://www.analog.com/en/digital-to-analog-converters/da-converters/ad9760/products/product.html
footprint RU-28_N (TSOP, 28-Leads, Body 9.7x4.4mm, Pitch 0.65mm, IPC Medium Density)
footprint RU-28_L (TSOP, 28-Leads, Body 9.7x4.4mm, Pitch 0.65mm, IPC High Density)
footprint RU-28_M (TSOP, 28-Leads, Body 9.7x4.4mm, Pitch 0.65mm, IPC Low Density)
pins: 1 DB9 (in) "Most Significant Data Bit (MSB).", 2 DB8 (in) "Data Bit 8", 3 DB7 (in) "Data Bit 7", 4 DB6 (in) "Data Bit 6", 5 DB5 (in) "Data Bit 5", 6 DB4 (in) "Data Bit 4", 7 DB3 (in) "Data Bit 3", 8 DB2 (in) "Data Bit 2", 9 DB1 (in) "Data Bit 1", 10 DB0 (in) "Least Significant Data Bit (LSB).", 11 NC "No Internal Connection.", 12 NC "No Internal Connection.", 13 NC "No Internal Connection.", 14 NC "No Internal Connection.", 15 SLEEP (in) "Power-Down Control Input. Active High. Contains active pull-down circuit, thus may be left unterminated if not used.", 16 REFLO "Reference Ground when Internal 1.2 V Reference Used. Connect to AVDD to disable internal reference.", 17 REFIO (io) "Reference Input/Output. Serves as reference input when internal reference disabled (i.e., Tie REFLO to AVDD). Serves as 1.2 V reference output when internal reference activated (i.e., Tie REFLO to ACOM). Requires 0.1 uF (See Datasheet)", 18 FS ADJ (in) "Full-Scale Current Output Adjust.", 19 COMP1 "Bandwidth/Noise Reduction Node. Add 0.1 uF to AVDD for optimum performance.", 20 ACOM (power) "Analog Common.", 21 IOUTB "Complementary DAC Current Output. Full-scale current when all data bits are 0s.", 22 IOUTA "DAC Current Output. Full-scale current when all data bits are 1s.", 23 COMP2 "Internal Bias Node for Switch Driver Circuitry. Decouple to ACOM with 0.1 uF capacitor.", 24 AVDD (power) "Analog Supply Voltage (+2.7 V to +5.5 V).", 25 NC "No Internal Connection.", 26 DCOM (power) "Digital Common.", 27 DVDD (power) "Digital Supply Voltage (+2.7 V to +5.5 V).", 28 CLOCK (in) "Clock Input. Data latched on positive edge of clock."

## AD9760ARUZ
designator U?
Single 10-Bit TxDAC, 125 Msps, -40 to +85 degC, RU-28, Pb-Free, Tube; Generic Part Number: AD9760; Manufacturer: Analog Devices; PartNumber: AD9760ARUZ; # DAC Outputs: 1; Max V+: 5.5V; Op Pwr Diss: 175mW; Resolution (Bits): 10; Settling Time: 35ns; Single Supply: Yes; DatasheetVersion: Rev.B; PackageVersion: 2005; PackageReference: RU-28; PackageDescription: 28-Lead Thin Shrink Small Outline Package [TSSOP]; Supplier 1: Digi-Key; Supplier Part Number 1: AD9760ARUZ-ND; Supplier 2: Farnell; Supplier Part Number 2: 2192248; Supplier 3: Newark; Supplier Part Number 3: 59K7395; Supplier 4: Mouser; Supplier Part Number 4: 584-AD9760ARUZ; Packing: Tube; RoHS: Y; Mounting Technology: Surface Mount; Code_JEDEC: MO-153-AE; ComponentLink1Description: Manufacturer URL; ComponentLink1URL: http://www.analog.com/en/index.html; ComponentLink2Description: Datasheet; ComponentLink2URL: http://www.analog.com/static/imported-files/data_sheets/AD9760.pdf; ComponentLink3Description: Package Specification; ComponentLink3URL: http://www.analog.com/static/imported-files/packages/249854663RU_28.pdf; ComponentLink4Description: Product URL; ComponentLink4URL: http://www.analog.com/en/digital-to-analog-converters/da-converters/ad9760/products/product.html
footprint RU-28_N (TSOP, 28-Leads, Body 9.7x4.4mm, Pitch 0.65mm, IPC Medium Density)
footprint RU-28_L (TSOP, 28-Leads, Body 9.7x4.4mm, Pitch 0.65mm, IPC High Density)
footprint RU-28_M (TSOP, 28-Leads, Body 9.7x4.4mm, Pitch 0.65mm, IPC Low Density)
pins: 1 DB9 (in) "Most Significant Data Bit (MSB).", 2 DB8 (in) "Data Bit 8", 3 DB7 (in) "Data Bit 7", 4 DB6 (in) "Data Bit 6", 5 DB5 (in) "Data Bit 5", 6 DB4 (in) "Data Bit 4", 7 DB3 (in) "Data Bit 3", 8 DB2 (in) "Data Bit 2", 9 DB1 (in) "Data Bit 1", 10 DB0 (in) "Least Significant Data Bit (LSB).", 11 NC "No Internal Connection.", 12 NC "No Internal Connection.", 13 NC "No Internal Connection.", 14 NC "No Internal Connection.", 15 SLEEP (in) "Power-Down Control Input. Active High. Contains active pull-down circuit, thus may be left unterminated if not used.", 16 REFLO "Reference Ground when Internal 1.2 V Reference Used. Connect to AVDD to disable internal reference.", 17 REFIO (io) "Reference Input/Output. Serves as reference input when internal reference disabled (i.e., Tie REFLO to AVDD). Serves as 1.2 V reference output when internal reference activated (i.e., Tie REFLO to ACOM). Requires 0.1 uF (See Datasheet)", 18 FS ADJ (in) "Full-Scale Current Output Adjust.", 19 COMP1 "Bandwidth/Noise Reduction Node. Add 0.1 uF to AVDD for optimum performance.", 20 ACOM (power) "Analog Common.", 21 IOUTB "Complementary DAC Current Output. Full-scale current when all data bits are 0s.", 22 IOUTA "DAC Current Output. Full-scale current when all data bits are 1s.", 23 COMP2 "Internal Bias Node for Switch Driver Circuitry. Decouple to ACOM with 0.1 uF capacitor.", 24 AVDD (power) "Analog Supply Voltage (+2.7 V to +5.5 V).", 25 NC "No Internal Connection.", 26 DCOM (power) "Digital Common.", 27 DVDD (power) "Digital Supply Voltage (+2.7 V to +5.5 V).", 28 CLOCK (in) "Clock Input. Data latched on positive edge of clock."

## AD9760ARUZ50
designator U?
Single 10-Bit TxDAC, 125 Msps, -40 to +85 degC, RU-28, Pb-Free, Tube; Generic Part Number: AD9760; Manufacturer: Analog Devices; PartNumber: AD9760ARUZ50; # DAC Outputs: 1; Max V+: 5.5V; Op Pwr Diss: 175mW; Resolution (Bits): 10; Settling Time: 35ns; Single Supply: Yes; DatasheetVersion: Rev.B; PackageVersion: 2005; PackageReference: RU-28; PackageDescription: 28-Lead Thin Shrink Small Outline Package [TSSOP]; Supplier 1: Digi-Key; Supplier Part Number 1: AD9760ARUZ50-ND; Supplier 2: Mouser; Supplier Part Number 2: 584-AD9760ARUZ50; Packing: Tube; RoHS: Y; Mounting Technology: Surface Mount; Code_JEDEC: MO-153-AE; ComponentLink1Description: Manufacturer URL; ComponentLink1URL: http://www.analog.com/en/index.html; ComponentLink2Description: Datasheet; ComponentLink2URL: http://www.analog.com/static/imported-files/data_sheets/AD9760.pdf; ComponentLink3Description: Package Specification; ComponentLink3URL: http://www.analog.com/static/imported-files/packages/249854663RU_28.pdf; ComponentLink4Description: Product URL; ComponentLink4URL: http://www.analog.com/en/digital-to-analog-converters/da-converters/ad9760/products/product.html
footprint RU-28_N (TSOP, 28-Leads, Body 9.7x4.4mm, Pitch 0.65mm, IPC Medium Density)
footprint RU-28_L (TSOP, 28-Leads, Body 9.7x4.4mm, Pitch 0.65mm, IPC High Density)
footprint RU-28_M (TSOP, 28-Leads, Body 9.7x4.4mm, Pitch 0.65mm, IPC Low Density)
pins: 1 DB9 (in) "Most Significant Data Bit (MSB).", 2 DB8 (in) "Data Bit 8", 3 DB7 (in) "Data Bit 7", 4 DB6 (in) "Data Bit 6", 5 DB5 (in) "Data Bit 5", 6 DB4 (in) "Data Bit 4", 7 DB3 (in) "Data Bit 3", 8 DB2 (in) "Data Bit 2", 9 DB1 (in) "Data Bit 1", 10 DB0 (in) "Least Significant Data Bit (LSB).", 11 NC "No Internal Connection.", 12 NC "No Internal Connection.", 13 NC "No Internal Connection.", 14 NC "No Internal Connection.", 15 SLEEP (in) "Power-Down Control Input. Active High. Contains active pull-down circuit, thus may be left unterminated if not used.", 16 REFLO "Reference Ground when Internal 1.2 V Reference Used. Connect to AVDD to disable internal reference.", 17 REFIO (io) "Reference Input/Output. Serves as reference input when internal reference disabled (i.e., Tie REFLO to AVDD). Serves as 1.2 V reference output when internal reference activated (i.e., Tie REFLO to ACOM). Requires 0.1 uF (See Datasheet)", 18 FS ADJ (in) "Full-Scale Current Output Adjust.", 19 COMP1 "Bandwidth/Noise Reduction Node. Add 0.1 uF to AVDD for optimum performance.", 20 ACOM (power) "Analog Common.", 21 IOUTB "Complementary DAC Current Output. Full-scale current when all data bits are 0s.", 22 IOUTA "DAC Current Output. Full-scale current when all data bits are 1s.", 23 COMP2 "Internal Bias Node for Switch Driver Circuitry. Decouple to ACOM with 0.1 uF capacitor.", 24 AVDD (power) "Analog Supply Voltage (+2.7 V to +5.5 V).", 25 NC "No Internal Connection.", 26 DCOM (power) "Digital Common.", 27 DVDD (power) "Digital Supply Voltage (+2.7 V to +5.5 V).", 28 CLOCK (in) "Clock Input. Data latched on positive edge of clock."